# Altium schematic symbol library SCH - DRIVER - LED - TI TLC5973D.SchLib: 1 symbol
Pins are listed as number, name and electrical type; pins without a type are passive.

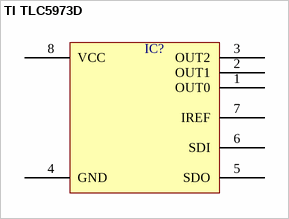
[diagram p0: symbol TI TLC5973D]

## TI TLC5973D
designator IC?  (value not drawn)
pins: 1 OUT0, 2 OUT1, 3 OUT2, 4 GND, 5 SDO, 6 SDI, 7 IREF, 8 VCC